# Altium footprint library PLT10HH.PcbLib: 1 footprints
Each footprint in its own frame and in the unit in brackets; x right, y up, seen from the top. Pads: shape width x height; smd on the part's side, far side on the other; paste and mask are expansions set on the pad; w line width, h text height; cw(c..) or ccw(c..) is an arc to the next point about the centre after c.
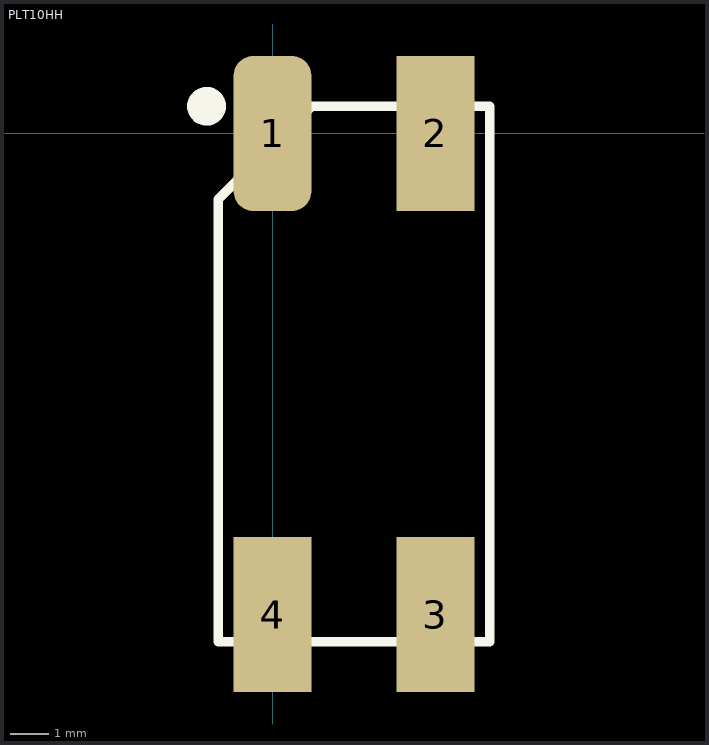
[diagram p0: the footprint, top view; thin cyan lines are the x and y axes]

## PLT10HH [mm] "Coupled Inductor"
pads (4):
  rrect50% 2x4 smd: 1(0,0)
  rect 2x4 smd: 2(4.2,0) 3(4.2,-12.4) 4(0,-12.4)
Top Overlay:
  circle w0.5: c-1.7,0.7 r0.25
  lines w0.254: -1.4,-13.1 5.6,-13.1 5.6,0.7 1,0.7 -1.4,-1.7 -1.4,-13.1
3D body "PLT10H_Murata.step": height 9.4, standoff 0, extent -1.2,-12.9 5.4,0.5